# Altium schematic symbol library Relay.SchLib: 5 symbols
Pins are listed as number, name and electrical type; pins without a type are passive.

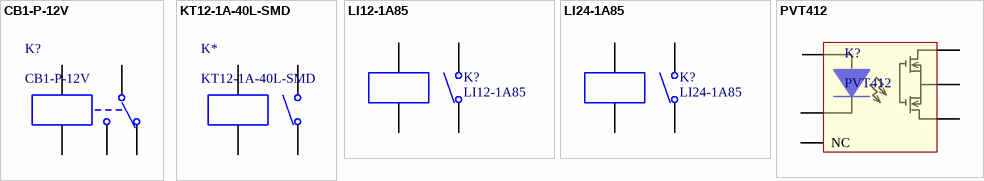
[diagram p0: symbols CB1-P-12V to PVT412]

## CB1-P-12V
designator K?
Panasonic SPDT Power Relay, contact 40A @14V, coil 12VDC
footprint CB1-P-12V (Panasonic SPDT Power Relay, contact 40A @14V, coil 12VDC)
pins: 30 4, 85 1, 86 5, 87 3, 87a 2

## KT12-1A-40L-SMD
designator K*
KT Series Reed Relay
footprint KT12-1A-40L-SMD (KT Series Reed Relay)
pins: 1, 2, 3, 4

## LI12-1A85
designator K?
12V Coil Reed Relay; ComponentLink1Description: Datasheet; ComponentLink1URL: https://4a30d8fd18dae1bf393d-df49f4cedb726ad03ad145d2e3d346bd.ssl.cf5.rackcdn.com/datasheets/16/1612185000e.pdf
footprint LIxx-1A85 (LI Series Reed Relay)
pins: 1, 2, 3, 4

## LI24-1A85
designator K?
24V Coil Reed Relay; ComponentLink1Description: New link; ComponentLink1URL: *
footprint LIxx-1A85 (LI Series Reed Relay)
pins: 1, 2, 3, 4

## PVT412
designator K?
HEXFET® Power MOSFET Photovoltaic Relay / Single-Pole, Normally-Open, 0-250V, 190mA AC/DC; ComponentLink1Description: Datasheet; ComponentLink1URL: https://www.mouser.com/datasheet/2/196/pvt312-1228490.pdf
footprint DIP-6 SMD
pins: 1 (power), 2 (power), 3 NC (power), 4 (power), 5 (power), 6 (power)